# Altium schematic symbol library Brian301.SchLib: 1 symbol
Pins are listed as number, name and electrical type; pins without a type are passive.

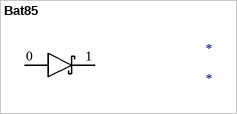
[diagram p0: symbol Bat85]

## Bat85
designator *
footprint PCBComponent_1
pins: 0, 1